# Altium footprint library CONN-FPC-503480-1200.PcbLib: 1 footprints
Each footprint in its own frame and in the unit in brackets; x right, y up, seen from the top. Pads: shape width x height; smd on the part's side, far side on the other; paste and mask are expansions set on the pad; w line width, h text height; cw(c..) or ccw(c..) is an arc to the next point about the centre after c.
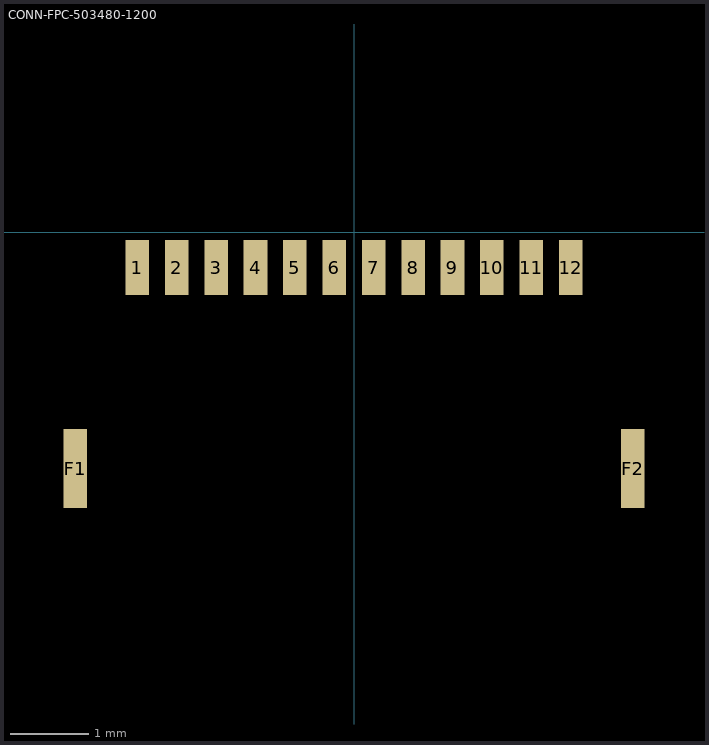
[diagram p0: the footprint, top view; thin cyan lines are the x and y axes]

## CONN-FPC-503480-1200 [mm]
pads (14):
  rect 0.3x0.7 smd paste+0: 1(-2.75,-0.45) 2(-2.25,-0.45) 3(-1.75,-0.45) 4(-1.25,-0.45) 5(-0.75,-0.45) 6(-0.25,-0.45) 7(0.25,-0.45) 8(0.75,-0.45) 9(1.25,-0.45) 10(1.75,-0.45) 11(2.25,-0.45) 12(2.75,-0.45)
  rect 0.3x1 smd paste+0: F1(-3.54,-3) F2(3.54,-3)
3D body: height 1.88, standoff -0.02, extent -3.85,-3.7 3.85,-0.1